# EAGLE library part 28PIN_DIP (library PIC32)
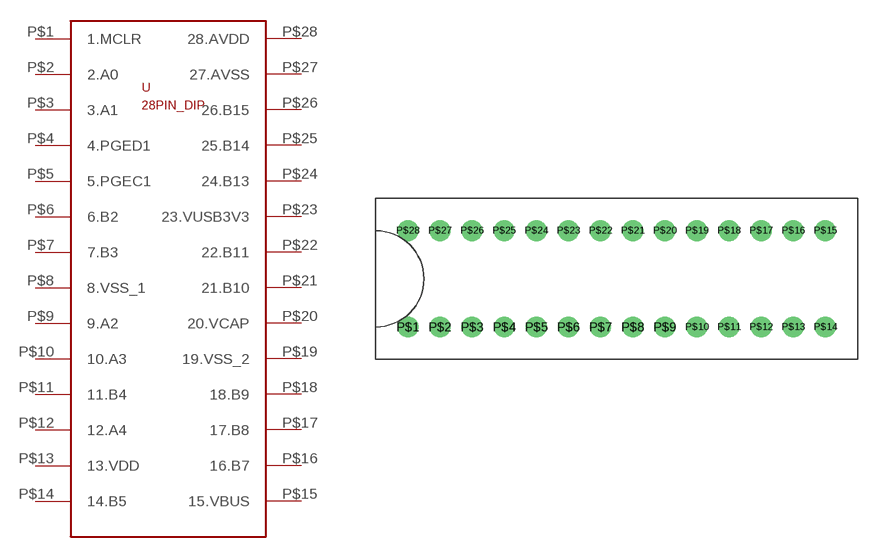
[diagram p0: symbol with the pads of 28PIN_DIP; footprint 28PIN_DIP]

Designator prefix -

## 28PIN_DIP  [28PIN_DIP]
P$1  1.MCLR
P$2  2.A0
P$3  3.A1
P$4  4.PGED1
P$5  5.PGEC1
P$6  6.B2
P$7  7.B3
P$8  8.VSS_1
P$9  9.A2
P$10  10.A3
P$11  11.B4
P$12  12.A4
P$13  13.VDD
P$14  14.B5
P$15  15.VBUS
P$16  16.B7
P$17  17.B8
P$18  18.B9
P$19  19.VSS_2
P$20  20.VCAP
P$21  21.B10
P$22  22.B11
P$23  23.VUSB3V3
P$24  24.B13
P$25  25.B14
P$26  26.B15
P$27  27.AVSS
P$28  28.AVDD

## Footprint 28PIN_DIP (pad centres in mm)
drill 1.1: P$1 -16.51,-3.81; P$2 -13.97,-3.81; P$3 -11.43,-3.81; P$4 -8.89,-3.81; P$5 -6.35,-3.81; P$6 -3.81,-3.81; P$7 -1.27,-3.81; P$8 1.27,-3.81; P$9 3.81,-3.81; P$10 6.35,-3.81; P$11 8.89,-3.81; P$12 11.43,-3.81; P$13 13.97,-3.81; P$14 16.51,-3.81; P$15 16.51,3.81; P$16 13.97,3.81; P$17 11.43,3.81; P$18 8.89,3.81; P$19 6.35,3.81; P$20 3.81,3.81; P$21 1.27,3.81; P$22 -1.27,3.81; P$23 -3.81,3.81; P$24 -6.35,3.81; P$25 -8.89,3.81; P$26 -11.43,3.81; P$27 -13.97,3.81; P$28 -16.51,3.81